# Altium footprint library NON SMD REGULATOR.PcbLib: 3 footprints
Each footprint in its own frame and in the unit in brackets; x right, y up, seen from the top. Pads: shape width x height; smd on the part's side, far side on the other; paste and mask are expansions set on the pad; w line width, h text height; cw(c..) or ccw(c..) is an arc to the next point about the centre after c.
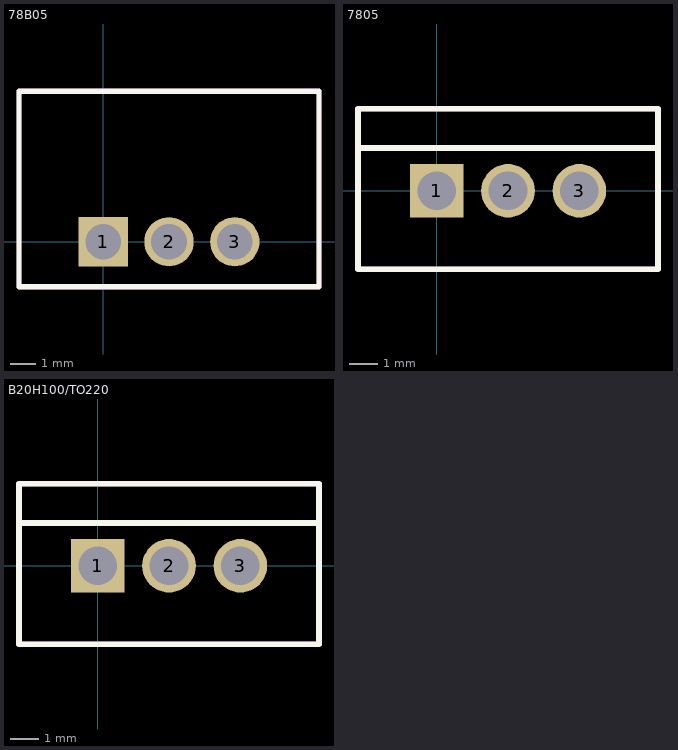
[diagram p0: the footprints below, top view; thin cyan lines are the x and y axes]

## 78B05 [mil]
pads (3):
  rect 75x75 hole 54: 1(0,0)
  round 75 hole 54: 2(100,0) 3(200,0)
Top Overlay:
  lines w8: -128,-68.4 -128,228.8 328,228.8 328,-68.4 -128,-68.4
  text ".Designator" at -13.95,129.37 h37.5
Mechanical 1:
  lines w8: -128,-68.4 -128,228.8 328,228.8 328,-68.4 -128,-68.4
  text ".Pattern" at 31.37,44.92 h22.5
  text ".Comment" at 20.17,71.88 h37.5
  text ".Designator" at -14.75,129.17 h37.5

## 7805 [mil]
pads (3):
  rect 75x75 hole 54: 1(0,0)
  round 75 hole 54: 2(100,0) 3(200,0)
Top Overlay:
  lines w8: -110,60 310,60 ; -110,-110 310,-110 310,115 -110,115 -110,-110
  text ".Designator" at -13.95,129.37 h37.5
Mechanical 1:
  lines w8: -110,60 310,60 ; -110,-110 310,-110 310,115 -110,115 -110,-110
  text ".Pattern" at 44.17,-5.88 h22.5
  text ".Comment" at 20.17,71.88 h37.5
  text ".Designator" at 36.05,-95.63 h37.5

## B20H100/TO220 [mil]
pads (3):
  rect 75x75 hole 54: 1(0,0)
  round 75 hole 54: 2(100,0) 3(200,0)
Top Overlay:
  lines w8: -110,60 310,60 ; -110,-110 310,-110 310,115 -110,115 -110,-110
  text ".Designator" at -13.95,129.37 h37.5
Mechanical 1:
  lines w8: -110,60 310,60 ; -110,-110 310,-110 310,115 -110,115 -110,-110
  text ".Pattern" at 44.17,-5.88 h22.5
  text ".Comment" at 20.17,71.88 h37.5
  text ".Designator" at 36.05,-95.63 h37.5